# EAGLE library part POT_DUAL (library 1)
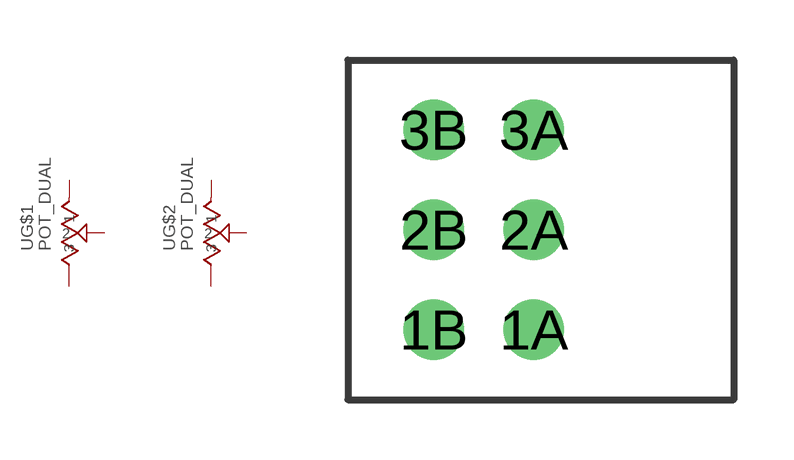
[diagram p30: symbol with the pads of PTD902; footprint PTD902]

Designator prefix -; gates G$1=POT G$2=POT

## POT_DUALPTD902  [PTD902]
1A  G$1:1  pas
1B  G$2:1  pas
2A  G$1:2  pas
2B  G$2:2  pas
3A  G$1:3  pas
3B  G$2:3  pas

## Footprint PTD902 (pad centres in mm)
Bourns PTD902 ex. PTD902-2015-A103 DATASHEET <http://www.bourns.com/data/global/pdfs/PTD90.pdf>
drill 1: 1A 1.25,-2.5; 1B -1.25,-2.5; 2A 1.25,0; 2B -1.25,0; 3A 1.25,2.5; 3B -1.25,2.5